# EAGLE library part ARIETTA (library mastrogippo)
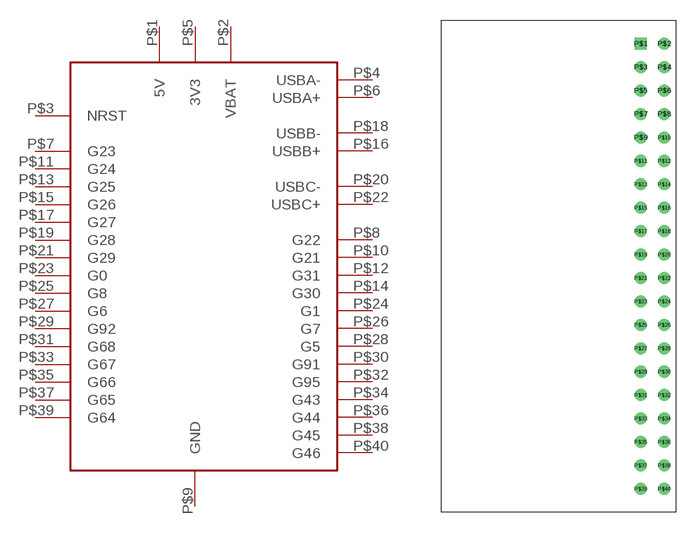
[diagram p12: symbol with the pads of ARIETTA; footprint ARIETTA]

Designator prefix -

## ARIETTA  [ARIETTA]
P$1  5V
P$2  VBAT
P$3  NRST
P$4  USBA-
P$5  3V3
P$6  USBA+
P$7  G23
P$8  G22
P$9  GND
P$10  G21
P$11  G24
P$12  G31
P$13  G25
P$14  G30
P$15  G26
P$16  USBB+
P$17  G27
P$18  USBB-
P$19  G28
P$20  USBC-
P$21  G29
P$22  USBC+
P$23  G0
P$24  G1
P$25  G8
P$26  G7
P$27  G6
P$28  G5
P$29  G92
P$30  G91
P$31  G68
P$32  G95
P$33  G67
P$34  G43
P$35  G66
P$36  G44
P$37  G65
P$38  G45
P$39  G64
P$40  G46

## Footprint ARIETTA (pad centres in mm)
drill 0.8 square: P$1 2.54,22.86
drill 0.8: P$2 5.08,22.86; P$3 2.54,20.32; P$4 5.08,20.32; P$5 2.54,17.78; P$6 5.08,17.78; P$7 2.54,15.24; P$8 5.08,15.24; P$9 2.54,12.7; P$10 5.08,12.7; P$11 2.54,10.16; P$12 5.08,10.16; P$13 2.54,7.62; P$14 5.08,7.62; P$15 2.54,5.08; P$16 5.08,5.08; P$17 2.54,2.54; P$18 5.08,2.54; P$19 2.54,0; P$20 5.08,0; P$21 2.54,-2.54; P$22 5.08,-2.54; P$23 2.54,-5.08; P$24 5.08,-5.08; P$25 2.54,-7.62; P$26 5.08,-7.62; P$27 2.54,-10.16; P$28 5.08,-10.16; P$29 2.54,-12.7; P$30 5.08,-12.7; P$31 2.54,-15.24; P$32 5.08,-15.24; P$33 2.54,-17.78; P$34 5.08,-17.78; P$35 2.54,-20.32; P$36 5.08,-20.32; P$37 2.54,-22.86; P$38 5.08,-22.86; P$39 2.54,-25.4; P$40 5.08,-25.4